# EAGLE library part ESP-01S (library _esp32)
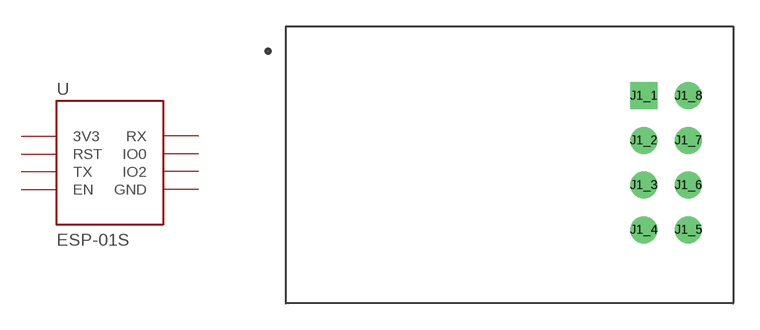
[diagram p3: symbol with the pads of ESP-01S; footprint ESP-01S]

Designator prefix -

## ESP-01S  [ESP-01S]
J1_1  3V3  pwr
J1_2  RST
J1_3  TX  in
J1_4  EN  pwr
J1_5  GND
J1_6  IO2
J1_7  IO0
J1_8  RX  pwr

## Footprint ESP-01S (pad centres in mm)
drill 1.02 square: J1_1 7.62,27.43
drill 1.02: J1_2 7.62,24.89; J1_3 7.62,22.35; J1_4 7.62,19.81; J1_5 10.16,19.81; J1_6 10.16,22.35; J1_7 10.16,24.89; J1_8 10.16,27.43